# EAGLE library part CC2511F32RSP (library CC2511F32)
Texas Instruments CC2511F32 http://www.digikey.com/product-detail/en/CC2511F32RSPR/296-22557-1-ND/1669052 Layout Based on Wixel https://www.pololu.com/docs/0J46/1.a
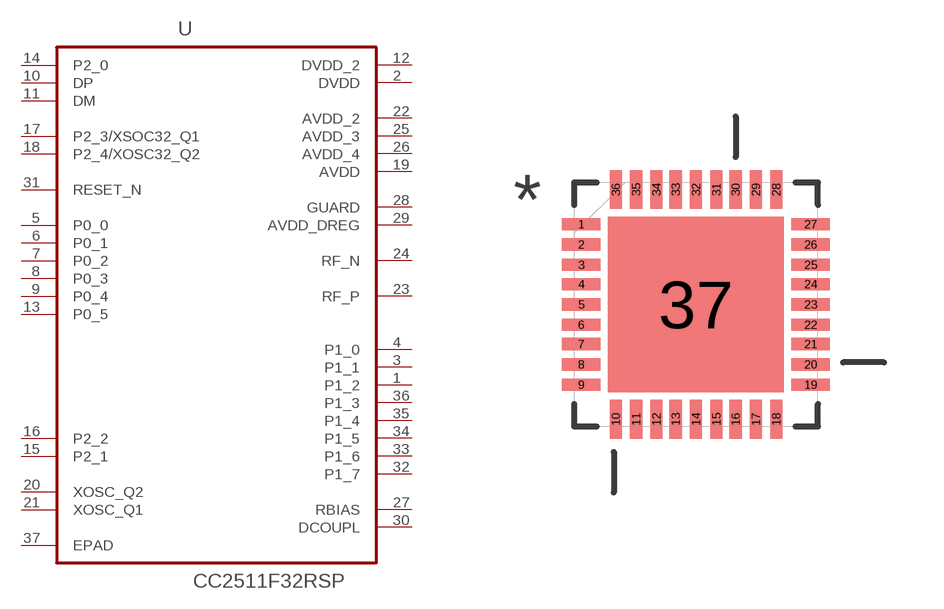
[diagram p1: symbol with the pads of QFN50P600X600X90-37N; footprint QFN50P600X600X90-37N]

Designator prefix -

## CC2511F32RSP  [QFN50P600X600X90-37N]
1  P1_2
2  DVDD  pwr
3  P1_1
4  P1_0
5  P0_0
6  P0_1
7  P0_2
8  P0_3
9  P0_4
10  DP
11  DM
12  DVDD_2  pwr
13  P0_5
14  P2_0
15  P2_1
16  P2_2
17  P2_3/XSOC32_Q1
18  P2_4/XOSC32_Q2  pwr
19  AVDD  pwr
20  XOSC_Q2
21  XOSC_Q1
22  AVDD_2  pwr
23  RF_P  in
24  RF_N  in
25  AVDD_3  pwr
26  AVDD_4  pwr
27  RBIAS  in
28  GUARD  pwr
29  AVDD_DREG  pwr
30  DCOUPL  in
31  RESET_N  in
32  P1_7
33  P1_6
34  P1_5
35  P1_4
36  P1_3
37  EPAD  pas

## Footprint QFN50P600X600X90-37N (pad centres in mm)
smd 0.965 x 0.305: 1 -2.87,2.007; 2 -2.87,1.499; 3 -2.87,0.991; 4 -2.87,0.508; 5 -2.87,0; 6 -2.87,-0.508; 7 -2.87,-0.991; 8 -2.87,-1.499; 9 -2.87,-2.007; 19 2.87,-2.007; 20 2.87,-1.499; 21 2.87,-0.991; 22 2.87,-0.508; 23 2.87,0; 24 2.87,0.508; 25 2.87,0.991; 26 2.87,1.499; 27 2.87,2.007
smd 0.305 x 0.965: 10 -2.007,-2.87; 11 -1.499,-2.87; 12 -0.991,-2.87; 13 -0.508,-2.87; 14 0,-2.87; 15 0.508,-2.87; 16 0.991,-2.87; 17 1.499,-2.87; 18 2.007,-2.87; 28 2.007,2.87; 29 1.499,2.87; 30 0.991,2.87; 31 0.508,2.87; 32 0,2.87; 33 -0.508,2.87; 34 -0.991,2.87; 35 -1.499,2.87; 36 -2.007,2.87
smd 4.394 x 4.394: 37 0,0